# EAGLE library part IOEXPANDER_16BIT (library CougsInSpace)
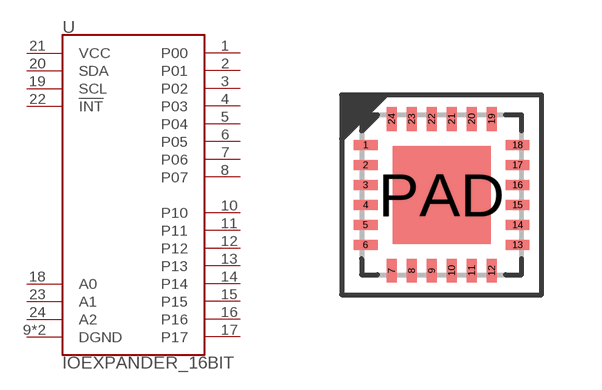
[diagram p37: symbol with the pads of QFN24-4X4; footprint QFN24-4X4]

Designator prefix U

## IOEXPANDER_16BITQFN24  [QFN24-4X4]
1  P00
2  P01
3  P02
4  P03
5  P04
6  P05
7  P06
8  P07
9  DGND  pwr
10  P10
11  P11
12  P12
13  P13
14  P14
15  P15
16  P16
17  P17
18  A0  pas
19  SCL
20  SDA
21  VCC  pwr
22  !INT  out
23  A1  pas
24  A2  pas
PAD  DGND  pwr

## Footprint QFN24-4X4 (pad centres in mm)
smd 0.6 x 0.25: 1 -1.9,1.25; 2 -1.9,0.75; 3 -1.9,0.25; 4 -1.9,-0.25; 5 -1.9,-0.75; 6 -1.9,-1.25; 13 1.9,-1.25; 14 1.9,-0.75; 15 1.9,-0.25; 16 1.9,0.25; 17 1.9,0.75; 18 1.9,1.25
smd 0.25 x 0.6: 7 -1.25,-1.9; 8 -0.75,-1.9; 9 -0.25,-1.9; 10 0.25,-1.9; 11 0.75,-1.9; 12 1.25,-1.9; 19 1.25,1.9; 20 0.75,1.9; 21 0.25,1.9; 22 -0.25,1.9; 23 -0.75,1.9; 24 -1.25,1.9
smd 2.45 x 2.45: PAD 0,0